# EAGLE library part ADAFRUIT_TB6612 (library adafruit_TB6612)
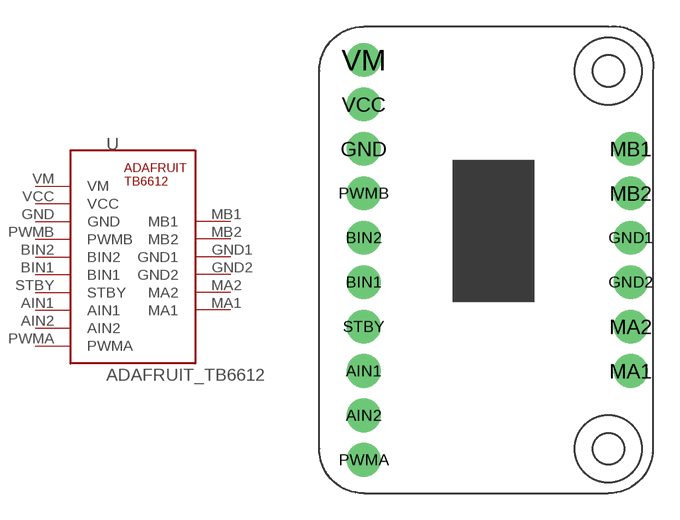
[diagram p0: symbol with the pads of ADAFRUIT_TB6612; footprint ADAFRUIT_TB6612]

Designator prefix -

## ADAFRUIT_TB6612  [ADAFRUIT_TB6612]
AIN1  AIN1
AIN2  AIN2
BIN1  BIN1
BIN2  BIN2
GND  GND
GND1  GND1
GND2  GND2
MA1  MA1
MA2  MA2
MB1  MB1
MB2  MB2
PWMA  PWMA
PWMB  PWMB
STBY  STBY
VCC  VCC
VM  VM

## Footprint ADAFRUIT_TB6612 (pad centres in mm)
drill 1.016 pad 1.93: AIN1 2.54,6.985; AIN2 2.54,4.445; BIN1 2.54,12.065; BIN2 2.54,14.605; GND 2.54,19.685; GND1 17.78,14.605; GND2 17.78,12.065; MA1 17.78,6.985; MA2 17.78,9.525; MB1 17.78,19.685; MB2 17.78,17.145; PWMA 2.54,1.905; PWMB 2.54,17.145; STBY 2.54,9.525; VCC 2.54,22.225; VM 2.54,24.765